# EAGLE library part IDT_QS3VH251 (library Switch_P4)
IDTQS3VH251 2.5V / 3.3V QUAD 8:1 MUX/DEMUX HIGH BANDWIDTH BUS SWITCH
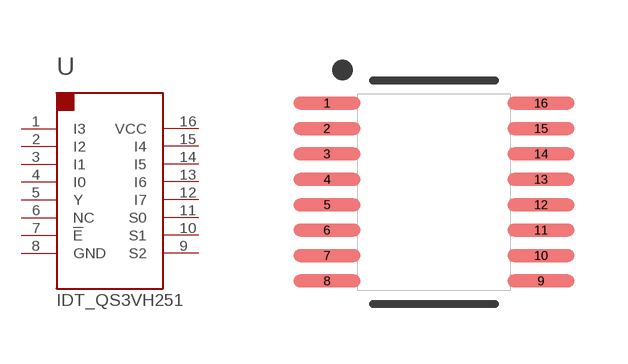
[diagram p2: symbol with the pads of QSOP-16; footprint QSOP-16]

Designator prefix U

## IDT_QS3VH251QG  [QSOP-16]
1  I3  pas
2  I2  pas
3  I1  pas
4  I0  pas
5  Y  pas
6  NC  pas
7  !E  pas
8  GND  pwr
9  S2  pas
10  S1  pas
11  S0  pas
12  I7  pas
13  I6  pas
14  I5  pas
15  I4  pas
16  VCC  pwr

## Footprint QSOP-16 (pad centres in mm)
16-QSOP (0.150", 3.90mm Width)
smd 1.676 x 0.33: 1 -2.675,2.223; 2 -2.675,1.587; 3 -2.675,0.953; 4 -2.675,0.318; 5 -2.675,-0.318; 6 -2.675,-0.953; 7 -2.675,-1.587; 8 -2.675,-2.223; 9 2.675,-2.223; 10 2.675,-1.587; 11 2.675,-0.953; 12 2.675,-0.318; 13 2.675,0.318; 14 2.675,0.953; 15 2.675,1.587; 16 2.675,2.223